# EAGLE library part LPC1758BD80 (library nxp-arm)
MICROCONTROLLER 32-bit ARM Cortex-M3 MCU up to 512 kB flash and 64 kB SRAM with Ethernet, USB 2.0 Host/Device/OTG, CAN
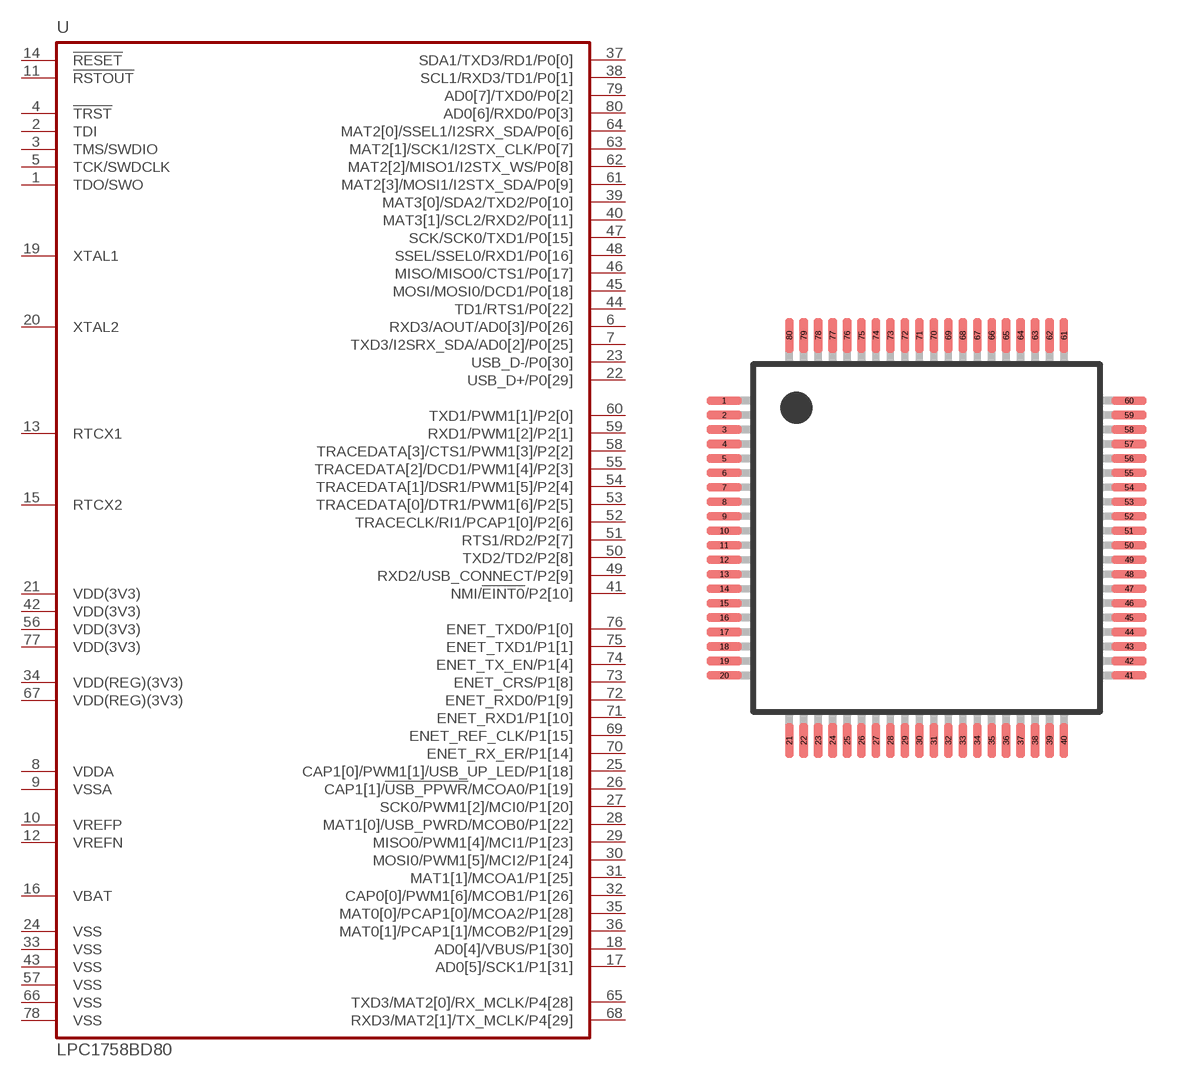
[diagram p6: symbol with the pads of LQFP80; footprint LQFP80]

Designator prefix U

## LPC1758BD80  [LQFP80]
1  TDO/SWO  out
2  TDI  in
3  TMS/SWDIO  in
4  !TRST!  in
5  TCK/SWDCLK  in
6  RXD3/AOUT/AD0[3]/P0[26]
7  TXD3/I2SRX_SDA/AD0[2]/P0[25]
8  VDDA  pwr
9  VSSA  pwr
10  VREFP  pwr
11  !RSTOUT!  out
12  VREFN  pwr
13  RTCX1  in
14  !RESET!  in
15  RTCX2  out
16  VBAT  pwr
17  AD0[5]/SCK1/P1[31]
18  AD0[4]/VBUS/P1[30]
19  XTAL1  in
20  XTAL2  out
21  VDD(3V3)  pwr
22  USB_D+/P0[29]
23  USB_D-/P0[30]
24  VSS  pwr
25  CAP1[0]/PWM1[1]/USB_UP_LED/P1[18]
26  CAP1[1]/!USB_PPWR!/MCOA0/P1[19]
27  SCK0/PWM1[2]/MCI0/P1[20]
28  MAT1[0]/USB_PWRD/MCOB0/P1[22]
29  MISO0/PWM1[4]/MCI1/P1[23]
30  MOSI0/PWM1[5]/MCI2/P1[24]
31  MAT1[1]/MCOA1/P1[25]
32  CAP0[0]/PWM1[6]/MCOB1/P1[26]
33  VSS  pwr
34  VDD(REG)(3V3)  pwr
35  MAT0[0]/PCAP1[0]/MCOA2/P1[28]
36  MAT0[1]/PCAP1[1]/MCOB2/P1[29]
37  SDA1/TXD3/RD1/P0[0]
38  SCL1/RXD3/TD1/P0[1]
39  MAT3[0]/SDA2/TXD2/P0[10]
40  MAT3[1]/SCL2/RXD2/P0[11]
41  NMI/!EINT0!/P2[10]
42  VDD(3V3)  pwr
43  VSS  pwr
44  TD1/RTS1/P0[22]
45  MOSI/MOSI0/DCD1/P0[18]
46  MISO/MISO0/CTS1/P0[17]
47  SCK/SCK0/TXD1/P0[15]
48  SSEL/SSEL0/RXD1/P0[16]
49  RXD2/USB_CONNECT/P2[9]
50  TXD2/TD2/P2[8]
51  RTS1/RD2/P2[7]
52  TRACECLK/RI1/PCAP1[0]/P2[6]
53  TRACEDATA[0]/DTR1/PWM1[6]/P2[5]
54  TRACEDATA[1]/DSR1/PWM1[5]/P2[4]
55  TRACEDATA[2]/DCD1/PWM1[4]/P2[3]
56  VDD(3V3)  pwr
57  VSS  pwr
58  TRACEDATA[3]/CTS1/PWM1[3]/P2[2]
59  RXD1/PWM1[2]/P2[1]
60  TXD1/PWM1[1]/P2[0]
61  MAT2[3]/MOSI1/I2STX_SDA/P0[9]
62  MAT2[2]/MISO1/I2STX_WS/P0[8]
63  MAT2[1]/SCK1/I2STX_CLK/P0[7]
64  MAT2[0]/SSEL1/I2SRX_SDA/P0[6]
65  TXD3/MAT2[0]/RX_MCLK/P4[28]
66  VSS  pwr
67  VDD(REG)(3V3)  pwr
68  RXD3/MAT2[1]/TX_MCLK/P4[29]
69  ENET_REF_CLK/P1[15]
70  ENET_RX_ER/P1[14]
71  ENET_RXD1/P1[10]
72  ENET_RXD0/P1[9]
73  ENET_CRS/P1[8]
74  ENET_TX_EN/P1[4]
75  ENET_TXD1/P1[1]
76  ENET_TXD0/P1[0]
77  VDD(3V3)  pwr
78  VSS  pwr
79  AD0[7]/TXD0/P0[2]
80  AD0[6]/RXD0/P0[3]

## Footprint LQFP80 (pad centres in mm)
LQFP80 pitch 0.5 mm, body 12 x 12 x 1.4 mm SOT315-1, JEDEC MS-026
smd 1.2 x 0.3: 1 -7,4.75; 2 -7,4.25; 3 -7,3.75; 4 -7,3.25; 5 -7,2.75; 6 -7,2.25; 7 -7,1.75; 8 -7,1.25; 9 -7,0.75; 10 -7,0.25; 11 -7,-0.25; 12 -7,-0.75; 13 -7,-1.25; 14 -7,-1.75; 15 -7,-2.25; 16 -7,-2.75; 17 -7,-3.25; 18 -7,-3.75; 19 -7,-4.25; 20 -7,-4.75; 41 7,-4.75; 42 7,-4.25; 43 7,-3.75; 44 7,-3.25; 45 7,-2.75; 46 7,-2.25; 47 7,-1.75; 48 7,-1.25; 49 7,-0.75; 50 7,-0.25; 51 7,0.25; 52 7,0.75; 53 7,1.25; 54 7,1.75; 55 7,2.25; 56 7,2.75; 57 7,3.25; 58 7,3.75; 59 7,4.25; 60 7,4.75
smd 0.3 x 1.2: 21 -4.75,-7; 22 -4.25,-7; 23 -3.75,-7; 24 -3.25,-7; 25 -2.75,-7; 26 -2.25,-7; 27 -1.75,-7; 28 -1.25,-7; 29 -0.75,-7; 30 -0.25,-7; 31 0.25,-7; 32 0.75,-7; 33 1.25,-7; 34 1.75,-7; 35 2.25,-7; 36 2.75,-7; 37 3.25,-7; 38 3.75,-7; 39 4.25,-7; 40 4.75,-7; 61 4.75,7; 62 4.25,7; 63 3.75,7; 64 3.25,7; 65 2.75,7; 66 2.25,7; 67 1.75,7; 68 1.25,7; 69 0.75,7; 70 0.25,7; 71 -0.25,7; 72 -0.75,7; 73 -1.25,7; 74 -1.75,7; 75 -2.25,7; 76 -2.75,7; 77 -3.25,7; 78 -3.75,7; 79 -4.25,7; 80 -4.75,7